# Altium schematic symbol library LVPowerModule.SchLib: 33 symbols
Pins are listed as number, name and electrical type; pins without a type are passive.

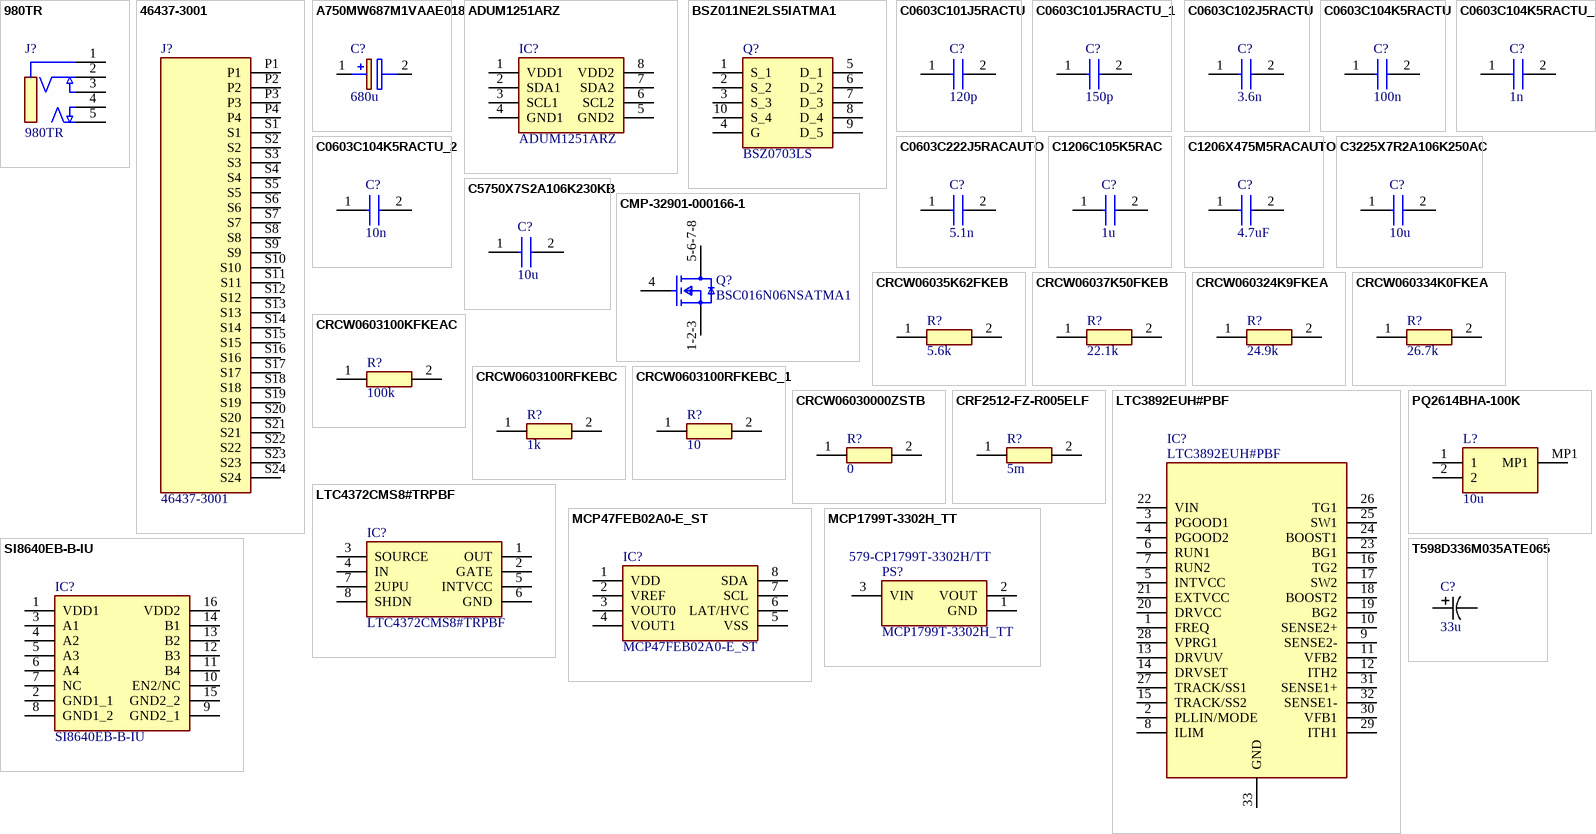
[diagram p0: symbols 980TR to T598D336M035ATE065]

## 980TR
designator J?
Connector; Manufacturer_Name: Keystone Electronics; Datasheet Link: https://www.keyelco.com/product.cfm/product_id/2402; Height: 4.14mm; Manufacturer_Part_Number: 980TR; Mouser Part Number: 534-980; Mouser Price/Stock: https://www.mouser.co.uk/ProductDetail/Keystone-Electronics/980TR?qs=sOYabIlKNmdpbsH5J2zkLQ%3D%3D
footprint 980TR
pins: 1, 2, 3, 4, 5

## 46437-3001
designator J?
Connector; Manufacturer_Name: Molex; Datasheet Link: https://componentsearchengine.com/Datasheets/1/46437-3007.pdf; Height: 10mm; Manufacturer_Part_Number: 46437-3001; Mouser Part Number: 538-46437-3001; Mouser Price/Stock: https://www.mouser.com/Search/Refine.aspx?Keyword=538-46437-3007
footprint 464373001
pins: P1, P2, P3, P4, S1, S2, S3, S4, S5, S6, S7, S8, S9, S10, S11, S12, S13, S14, S15, S16, S17, S18, S19, S20, S21, S22, S23, S24

## A750MW687M1VAAE018
designator C?  value 680u  (hidden comment: A750MW687M1VAAE018)
Capacitor Polarised; Manufacturer_Name: Kemet; Datasheet Link: https://www.kemet.com/specsheet/A750MW687M1VAAE018; Height: 18mm; Manufacturer_Part_Number: A750MW687M1VAAE018
footprint CAPPRD500W65D1000H1800
pins: 1 +, 2 -

## ADUM1251ARZ
designator IC?
Integrated Circuit; Manufacturer_Name: Analog Devices; Datasheet Link: https://datasheet.datasheetarchive.com/originals/distributors/Datasheets-DGA3/264898.pdf; Height: 1.75mm; Manufacturer_Part_Number: ADUM1251ARZ; Mouser Part Number: 584-ADUM1251ARZ; Mouser Price/Stock: https://www.mouser.co.uk/ProductDetail/Analog-Devices/ADUM1251ARZ?qs=WIvQP4zGani5W7Ldr0QsZA%3D%3D; Arrow Part Number: ADUM1251ARZ; Arrow Price/Stock: https://www.arrow.com/en/products/adum1251arz/analog-devices?region=nac; Supplier 1: Mouser; Supplier Part Number 1: 584-ADUM1251ARZ
footprint SOIC127P600X175-8N
pins: 1 VDD1, 2 SDA1, 3 SCL1, 4 GND1, 5 GND2, 6 SCL2, 7 SDA2, 8 VDD2

## BSZ011NE2LS5IATMA1
designator Q?, comment BSZ0703LS
MOSFET (N-Channel); Manufacturer_Name: Infineon; Manufacturer_Part_Number: BSZ011NE2LS5IATMA1; Datasheet Link: https://componentsearchengine.com/Datasheets/1/BSZ011NE2LS5IATMA1.pdf; Height: 1.1mm; Mouser Part Number: 726-BSZ011NE2LS5IATM; Mouser Price/Stock: https://www.mouser.co.uk/ProductDetail/Infineon-Technologies/BSZ011NE2LS5IATMA1?qs=PzGy0jfpSMvXxmHh4MC9dw%3D%3D; Supplier 1: Mouser; Supplier Part Number 1: 726-BSZ0703LSATMA1
footprint BSZ011NE2LS5IATMA1
pins: 1 S_1, 2 S_2, 3 S_3, 4 G, 5 D_1, 6 D_2, 7 D_3, 8 D_4, 9 D_5, 10 S_4

## C0603C101J5RACTU
designator C?, comment value 120p  (hidden comment: C0603C121J5GACTU)
Capacitor; Manufacturer_Name: Kemet; Manufacturer_Part_Number: C0603C101J5RACTU; Datasheet Link: https://componentsearchengine.com/Datasheets/1/C0603C101J5RACTU.pdf; Height: 0.87mm; Mouser Part Number: 80-C0603C101J5R; Mouser Price/Stock: https://www.mouser.com/Search/Refine.aspx?Keyword=80-C0603C101J5R; Arrow Part Number: C0603C101J5RACTU; Arrow Price/Stock: https://www.arrow.com/en/products/c0603c101j5ractu/kemet-corporation; Supplier 1: Mouser; Supplier Part Number 1: 80-C0603C121J5G
footprint CAPC1608X87N
pins: 1, 2

## C0603C101J5RACTU_1
designator C?, comment value 150p  (hidden comment: C0603C151J5GAC)
Capacitor; Manufacturer_Name: Kemet; Manufacturer_Part_Number: C0603C101J5RACTU; Datasheet Link: https://componentsearchengine.com/Datasheets/1/C0603C101J5RACTU.pdf; Height: 0.87mm; Mouser Part Number: 80-C0603C101J5R; Mouser Price/Stock: https://www.mouser.com/Search/Refine.aspx?Keyword=80-C0603C101J5R; Arrow Part Number: C0603C101J5RACTU; Arrow Price/Stock: https://www.arrow.com/en/products/c0603c101j5ractu/kemet-corporation; Supplier 1: Mouser; Supplier Part Number 1: 80-C0603C151J5G
footprint CAPC1608X87N
pins: 1, 2

## C0603C102J5RACTU
designator C?, comment value 3.6n  (hidden comment: C0603C362J5GACTU)
Capacitor; Manufacturer_Name: Kemet; Manufacturer_Part_Number: C0603C102J5RACTU; Datasheet Link: https://api.kemet.com/component-edge/download/datasheet/C0603C102J5RACTU.pdf; Height: 0.87mm; Mouser Part Number: 80-C0603C102J5R; Mouser Price/Stock: https://www.mouser.co.uk/ProductDetail/KEMET/C0603C102J5RACTU?qs=qG1y%252BaZBm0ORyW8zMfKotw%3D%3D; Arrow Part Number: C0603C102J5RACTU; Arrow Price/Stock: https://www.arrow.com/en/products/c0603c102j5ractu/kemet-corporation; Supplier 1: Mouser; Supplier Part Number 1: 80-C0603C362J5G
footprint CAPC1608X87N
pins: 1, 2

## C0603C104K5RACTU
designator C?  value 100n  (hidden comment: C0603C104K5RACTU)
Capacitor; Manufacturer_Name: Kemet; Datasheet Link: http://www.farnell.com/datasheets/2205446.pdf; Height: 0.95mm; Manufacturer_Part_Number: C0603C104K5RACTU; Mouser Part Number: 80-C0603C104K5R; Mouser Price/Stock: https://www.mouser.co.uk/ProductDetail/KEMET/C0603C104K5RACTU?qs=l5k%252BbMnNDkkVcnZPSAaaiQ%3D%3D; Arrow Part Number: C0603C104K5RACTU; Arrow Price/Stock: https://www.arrow.com/en/products/c0603c104k5ractu/kemet-corporation; Supplier 1: Mouser; Supplier Part Number 1: 80-C0603C104K5R
footprint CAPC1608X95N
pins: 1, 2

## C0603C104K5RACTU_1
designator C?, comment value 1n  (hidden comment: C0603C102J5RACTU)
Capacitor; Manufacturer_Name: Kemet; Manufacturer_Part_Number: C0603C104K5RACTU; Datasheet Link: http://www.farnell.com/datasheets/2205446.pdf; Height: 0.95mm; Mouser Part Number: 80-C0603C104K5R; Mouser Price/Stock: https://www.mouser.co.uk/ProductDetail/KEMET/C0603C104K5RACTU?qs=l5k%252BbMnNDkkVcnZPSAaaiQ%3D%3D; Arrow Part Number: C0603C104K5RACTU; Arrow Price/Stock: https://www.arrow.com/en/products/c0603c104k5ractu/kemet-corporation; Supplier 1: Mouser; Supplier Part Number 1: 80-C0603C102J5R
footprint CAPC1608X95N
pins: 1, 2

## C0603C104K5RACTU_2
designator C?, comment value 10n  (hidden comment: C0603C104K5RACTU)
Capacitor; Manufacturer_Name: Kemet; Datasheet Link: http://www.farnell.com/datasheets/2205446.pdf; Height: 0.95mm; Manufacturer_Part_Number: C0603C104K5RACTU; Mouser Part Number: 80-C0603C104K5R; Mouser Price/Stock: https://www.mouser.co.uk/ProductDetail/KEMET/C0603C104K5RACTU?qs=l5k%252BbMnNDkkVcnZPSAaaiQ%3D%3D; Arrow Part Number: C0603C104K5RACTU; Arrow Price/Stock: https://www.arrow.com/en/products/c0603c104k5ractu/kemet-corporation; Supplier 1: Mouser; Supplier Part Number 1: 80-C0603C104K5R
footprint CAPC1608X95N
pins: 1, 2

## C0603C222J5RACAUTO
designator C?, comment value 5.1n  (hidden comment: C0603C512J5GACAUTO)
Capacitor; Manufacturer_Name: Kemet; Manufacturer_Part_Number: C0603C222J5RACAUTO; Datasheet Link: https://api.kemet.com/component-edge/download/datasheet/C0603C222J5RACAUTO.pdf; Height: 0.87mm; Mouser Part Number: 80-C0603C222J5RAUTO; Mouser Price/Stock: https://www.mouser.co.uk/ProductDetail/KEMET/C0603C222J5RACAUTO?qs=XYJIsZbdjSPu3wyG4zpZ%252Bg%3D%3D; Arrow Part Number: C0603C222J5RACAUTO; Arrow Price/Stock: https://www.arrow.com/en/products/c0603c222j5racauto/kemet-corporation; Supplier 1: Mouser; Supplier Part Number 1: 80-C0603C512J5GAUTO
footprint CAPC1608X87N
pins: 1, 2

## C1206C105K5RAC
designator C?  value 1u  (hidden comment: C1206C105K5RAC)
Capacitor; Manufacturer_Name: KEMET; Datasheet Link: https://www.kemet.com/specsheet/C1206C105K5RACTU; Height: 1.1mm; Manufacturer_Part_Number: C1206C105K5RAC; Mouser Part Number: 80-C1206C105K5RAC; Mouser Price/Stock: https://www.mouser.co.uk/ProductDetail/KEMET/C1206C105K5RAC?qs=NTAB53G5bVDYFBtoIe7UwQ%3D%3D; Arrow Part Number: C1206C105K5RAC; Arrow Price/Stock: https://www.arrow.com/en/products/c1206c105k5rac/kemet-corporation
footprint CAPC3216X110N
pins: 1, 2

## C1206X475M5RACAUTO
designator C?  value 4.7uF  (hidden comment: C1206X475M5RACAUTO)
Capacitor; Manufacturer_Name: Kemet; Datasheet Link: https://www.kemet.com/specsheet/C1206X475M5RACAUTO; Height: 1.95mm; Manufacturer_Part_Number: C1206X475M5RACAUTO; Mouser Part Number: 80-C1206X475M5RAUTO; Mouser Price/Stock: https://www.mouser.co.uk/ProductDetail/KEMET/C1206X475M5RACAUTO?qs=%252B6g0mu59x7LXtOZABrHA3A%3D%3D; Supplier 1: Mouser; Supplier Part Number 1: 80-C1206X475M5RAUTO
footprint CAPC3316X195N
pins: 1, 2

## C3225X7R2A106K250AC
designator C?  value 10u  (hidden comment: C3225X7R2A106K250AC)
Capacitor; Manufacturer_Name: TDK; Datasheet Link: https://product.tdk.com/info/en/catalog/datasheets/mlcc_commercial_midvoltage_en.pdf; Height: 2.3mm; Manufacturer_Part_Number: C3225X7R2A106K250AC; Mouser Part Number: 810-C3225X7R2A106K25; Mouser Price/Stock: https://www.mouser.co.uk/ProductDetail/TDK/C3225X7R2A106K250AC?qs=rSMjJ%252B1ewcQNu1nTZev8UA%3D%3D
footprint CAPC3225X230N
pins: 1, 2

## C5750X7S2A106K230KB
designator C?  value 10u  (hidden comment: C5750X7S2A106K230KB)
Capacitor; Manufacturer_Name: TDK; Datasheet Link: http://www.mouser.com/ds/2/400/lcc_commercial_general_en-837201.pdf; Height: 3.1mm; Manufacturer_Part_Number: C5750X7S2A106K230KB; Arrow Part Number: C5750X7S2A106K230KB; Arrow Price/Stock: https://www.arrow.com/en/products/c5750x7s2a106k230kb/tdk; Mouser Part Number: 810-C5750X7S2A106KKB; Mouser Price/Stock: https://www.mouser.co.uk/ProductDetail/TDK/C5750X7S2A106K230KB?qs=XHchNesRtUZKzUEzha8N7w%3D%3D; Supplier 1: Mouser; Supplier Part Number 1: 810-C5750X7S2A106KKB
footprint CAPC5750X310N
pins: 1, 2

## CMP-32901-000166-1
designator Q?, comment BSC016N06NSATMA1
MOSFET N-CH 60V 30A TDSON-8; Manufacturer: Infineon; Reverse Recovery Charge: 78nC; Power Dissipation: 2.5W; Transconductance: 140S; Gate Charge At Vgs: 71nC @ 10V; Turn On Delay Time: 19ns; Number Of Channels: 1; Typ Forward Diode Voltage: 0.9V; Depletion Mode: False; Max Forward Diode Voltage: 1.2V; Reverse Recovery Time: 61ns; Input Capacitace At Vds: 5200pF @ 30V; Gate To Source Voltage: 20V; Threshold Vgs Min: 2.1V; Drain To Source Resistance: 1.4mΩ; Turn Off Delay Time: 35ns; Threshold Vgs Max: 3.3V; Pulse Drain Current: 400A; Rthja Max: 50K/W; Max Junction Temp: +150°C; Temperature Range High: +150°C; Lead Free: Yes; ComponentLink2URL: https://www.infineon.com/dgdl/Infineon-BSC016N06NS-DS-v02_01-en.pdf?fileId=db3a3043353fdc160135532b353c483c; Device Class L2: Transistors; Drain To Source Voltage: 60V; ComponentLink2Description: Datasheet; Device Class L1: Discrete Semiconductors; Drain To Source Breakdown Voltage: 60V; Manufacturer Part Number: BSC016N06NSATMA1; Continuous Drain Current: 30A; Package: PG-TDSON-8; Octopart: https://octopart.com/bsc016n06nsatma1-infineon-23421881; Automotive: No; Temperature Range Low: -55°C; Footprint Url: https://www.infineon.com/cms/en/product/packages/PG-TDSON/PG-TDSON-8-17/; RoHS: TRUE; Number Of N Channels: 1; Temperature: -55°C to +150°C; Height: 1.1mm; Device Class L3: MOSFETs; Category: Trans; Digikey Description: MOSFET N-CH 60V 30A TDSON-8
footprint FP-PG-TDSON-8-MFG
pins: 1-2-3 S, 4 G, 5-6-7-8 D

## CRCW06035K62FKEB
designator R?, comment value 5.6k  (hidden comment: CRCW06035K60JNEAC)
Resistor; Manufacturer_Name: Vishay; Manufacturer_Part_Number: CRCW06035K62FKEB; Datasheet Link: http://www.vishay.com/docs/20035/dcrcwe3.pdf; Height: 0.5mm; Mouser Part Number: 71-CRCW06035K62FKEB; Mouser Price/Stock: https://www.mouser.co.uk/ProductDetail/Vishay-Dale/CRCW06035K62FKEB?qs=P6ImCWcZKGBvDktlVJxa7w%3D%3D; Supplier 1: Mouser; Supplier Part Number 1: 71-CRCW06035K60JNEAC
footprint RESC1608X50N
pins: 1, 2

## CRCW06037K50FKEB
designator R?, comment value 22.1k  (hidden comment: CRCW060322K1FKEB)
Resistor; Manufacturer_Name: Vishay; Manufacturer_Part_Number: CRCW06037K50FKEB; Datasheet Link: http://www.vishay.com/docs/20035/dcrcwe3.pdf; Height: 0.5mm; Mouser Part Number: 71-CRCW06037K50FKEB; Mouser Price/Stock: https://www.mouser.co.uk/ProductDetail/Vishay-Dale/CRCW06037K50FKEB?qs=2ihuRUavkaTvW2vO4EimMQ%3D%3D; Supplier 1: Mouser; Supplier Part Number 1: 71-CRCW060322K1FKEB
footprint RESC1608X50N
pins: 1, 2

## CRCW060324K9FKEA
designator R?, comment value 24.9k  (hidden comment: CRCW060324K9FKTA)
Resistor; Manufacturer_Name: Vishay; Manufacturer_Part_Number: CRCW060324K9FKEA; Datasheet Link: http://www.vishay.com/docs/20035/dcrcwe3.pdf; Height: 0.5mm; Mouser Part Number: 71-CRCW0603-24.9K-E3; Mouser Price/Stock: https://www.mouser.co.uk/ProductDetail/Vishay-Dale/CRCW060324K9FKEA?qs=duauLwvczSYlbxc75y0kVA%3D%3D; Arrow Part Number: CRCW060324K9FKEA; Arrow Price/Stock: https://www.arrow.com/en/products/crcw060324k9fkea/vishay; Supplier 1: Mouser; Supplier Part Number 1: 71-CRCW0603-24.9K
footprint RESC1608X50N
pins: 1, 2

## CRCW060334K0FKEA
designator R?, comment value 26.7k  (hidden comment: CRCW060326K7FKEB)
Resistor; Manufacturer_Name: Vishay; Manufacturer_Part_Number: CRCW060334K0FKEA; Datasheet Link: http://www.vishay.com/docs/20035/dcrcwe3.pdf; Height: 0.5mm; Mouser Part Number: 71-CRCW0603-34K-E3; Mouser Price/Stock: https://www.mouser.com/Search/Refine.aspx?Keyword=71-CRCW0603-34K-E3; Arrow Part Number: CRCW060334K0FKEA; Arrow Price/Stock: https://www.arrow.com/en/products/crcw060334k0fkea/vishay; Supplier 1: Mouser; Supplier Part Number 1: 71-CRCW060326K7FKEB
footprint RESC1608X50N
pins: 1, 2

## CRCW0603100KFKEAC
designator R?, comment value 100k  (hidden comment: CRCW0603100KJNEAC)
Resistor; Manufacturer_Name: Vishay; Manufacturer_Part_Number: CRCW0603100KFKEAC; Datasheet Link: https://www.mouser.com/datasheet/2/427/crcwce3-1223726.pdf; Height: 0.55mm; Mouser Part Number: 71-CRCW0603100KFKEAC; Mouser Price/Stock: https://www.mouser.co.uk/ProductDetail/Vishay-Dale/CRCW0603100KFKEAC?qs=E3Y5ESvWgWPxzfNYyMgX1w%3D%3D; Arrow Part Number: CRCW0603100KFKEAC; Arrow Price/Stock: https://www.arrow.com/en/products/crcw0603100kfkeac/vishay; Supplier 1: Mouser; Supplier Part Number 1: 71-CRCW0603100KJNEAC
footprint RESC1608X55N
pins: 1, 2

## CRCW0603100RFKEBC
designator R?  value 1k  (hidden comment: CRCW0603100RFKEBC)
Resistor; Manufacturer_Name: Vishay; Datasheet Link: https://www.vishay.com/docs/28773/crcwce3.pdf; Height: 0.55mm; Manufacturer_Part_Number: CRCW0603100RFKEBC; Mouser Part Number: 71-CRCW0603100RFKEBC; Mouser Price/Stock: https://www.mouser.co.uk/ProductDetail/Vishay-Dale/CRCW0603100RFKEBC?qs=wd5RIQLrsJhdvQFtBw4oWg%3D%3D; Arrow Part Number: CRCW0603100RFKEBC; Arrow Price/Stock: https://www.arrow.com/en/products/crcw0603100rfkebc/vishay?region=nac
footprint RESC1608X55N
pins: 1, 2

## CRCW0603100RFKEBC_1
designator R?, comment value 10  (hidden comment: CRCW0603100RFKEBC)
Resistor; Manufacturer_Name: Vishay; Datasheet Link: https://www.vishay.com/docs/28773/crcwce3.pdf; Height: 0.55mm; Manufacturer_Part_Number: CRCW0603100RFKEBC; Mouser Part Number: 71-CRCW0603100RFKEBC; Mouser Price/Stock: https://www.mouser.co.uk/ProductDetail/Vishay-Dale/CRCW0603100RFKEBC?qs=wd5RIQLrsJhdvQFtBw4oWg%3D%3D; Arrow Part Number: CRCW0603100RFKEBC; Arrow Price/Stock: https://www.arrow.com/en/products/crcw0603100rfkebc/vishay?region=nac
footprint RESC1608X55N
pins: 1, 2

## CRCW06030000ZSTB
designator R?  Parameter 1: 0  (hidden comment: CRCW06030000ZSTB)
Resistor; Manufacturer_Name: Vishay; Datasheet Link: http://www.vishay.com/docs/20035/dcrcwe3.pdf; Height: 0.5mm; Manufacturer_Part_Number: CRCW06030000ZSTB; Mouser Part Number: 71-CRCW0603000ZT-RT5; Mouser Price/Stock: https://www.mouser.co.uk/ProductDetail/Vishay-Dale/CRCW06030000ZSTB?qs=2ymmDbJkxOjBfbAlbZJVUA%3D%3D; Arrow Part Number: CRCW06030000ZSTB; Arrow Price/Stock: https://www.arrow.com/en/products/crcw06030000zstb/vishay?region=nac; Supplier 1: Mouser; Supplier Part Number 1: 71-CRCW0603000ZT-RT5
footprint RESC1608X50N
pins: 1, 2

## CRF2512-FZ-R005ELF
designator R?  value 5m  (hidden comment: CRF2512-FZ-R005ELF)
Resistor; Manufacturer_Name: Bourns; Datasheet Link: https://www.arrow.com/en/products/crf2512-fz-r005elf/bourns; Height: 0.8mm; Manufacturer_Part_Number: CRF2512-FZ-R005ELF; Mouser Part Number: 652-CRF2512FZR005ELF; Mouser Price/Stock: https://www.mouser.co.uk/ProductDetail/Bourns/CRF2512-FZ-R005ELF/?qs=iHX4uCgIbgMqZUuYK4Zqgg%3D%3D; Arrow Part Number: CRF2512-FZ-R005ELF; Arrow Price/Stock: https://www.arrow.com/en/products/crf2512-fz-r005elf/bourns; Supplier 1: Mouser; Supplier Part Number 1: 652-CRF2512FZR005ELF
footprint RESC6432X80N
pins: 1, 2

## LTC3892EUH#PBF
designator IC?
Integrated Circuit; Manufacturer_Name: Analog Devices; Datasheet Link: https://static6.arrow.com/aropdfconversion/d55dab638e5428544f7d993794f5b08548362f1a/25521248972647946369.pdf; Height: 0.8mm; Manufacturer_Part_Number: LTC3892EUH#PBF; Arrow Part Number: LTC3892EUH#PBF; Arrow Price/Stock: https://www.arrow.com/en/products/ltc3892euhpbf/analog-devices; Supplier 1: Mouser; Supplier Part Number 1: 584-LTC3892EUH-2#PBF
footprint QFN50P500X500X80-33N-D
pins: 1 FREQ, 2 PLLIN/MODE, 3 PGOOD1, 4 PGOOD2, 5 INTVCC, 6 RUN1, 7 RUN2, 8 ILIM, 9 SENSE2-, 10 SENSE2+, 11 VFB2, 12 ITH2, 13 DRVUV, 14 DRVSET, 15 TRACK/SS2, 16 TG2, 17 SW2, 18 BOOST2, 19 BG2, 20 DRVCC, 21 EXTVCC, 22 VIN, 23 BG1, 24 BOOST1, 25 SW1, 26 TG1, 27 TRACK/SS1, 28 VPRG1, 29 ITH1, 30 VFB1, 31 SENSE1+, 32 SENSE1-, 33 GND

## LTC4372CMS8#TRPBF
designator IC?
Integrated Circuit; Manufacturer_Name: Analog Devices; Datasheet Link: https://www.arrow.com/en/products/ltc4372cms8trpbf/analog-devices; Height: 1.1mm; Manufacturer_Part_Number: LTC4372CMS8#TRPBF; Mouser Part Number: 584-LTC4372CMS8TRPBF; Mouser Price/Stock: https://www.mouser.co.uk/ProductDetail/Analog-Devices/LTC4372CMS8TRPBF?qs=T94vaHKWudSmRk6S7wUTVw%3D%3D; Arrow Part Number: LTC4372CMS8#TRPBF; Arrow Price/Stock: https://www.arrow.com/en/products/ltc4372cms8trpbf/analog-devices; Supplier 1: Mouser; Supplier Part Number 1: 584-LTC4372CMS8TRPBF
footprint SOP65P490X110-8N
pins: 1 OUT, 2 GATE, 3 SOURCE, 4 IN, 5 INTVCC, 6 GND, 7 2UPU, 8 SHDN

## MCP47FEB02A0-E_ST
designator IC?
Integrated Circuit; Manufacturer_Name: Microchip; Manufacturer_Part_Number: MCP47FEB02A0-E/ST; Datasheet Link: http://www.microchip.com/mymicrochip/filehandler.aspx?ddocname=en573220; Height: 1.2mm; Mouser Part Number: 579-MCP47FEB02A0EST; Mouser Price/Stock: https://www.mouser.co.uk/ProductDetail/Microchip-Technology/MCP47FEB02A0-E-ST?qs=rQCxX1QmdjKDJonwz1QvmA%3D%3D; Arrow Part Number: MCP47FEB02A0-E/ST; Arrow Price/Stock: https://www.arrow.com/en/products/mcp47feb02a0-est/microchip-technology?region=nac
footprint SOP65P640X120-8N
pins: 1 VDD, 2 VREF, 3 VOUT0, 4 VOUT1, 5 VSS, 6 LAT/HVC, 7 SCL, 8 SDA

## MCP1799T-3302H_TT
designator PS?  Supplier Part Number 1: 579-CP1799T-3302H/TT
Power Supply; Manufacturer_Name: Microchip; Manufacturer_Part_Number: MCP1799T-3302H/TT; Datasheet Link: https://ms.componentsearchengine.com/Datasheets/1/MCP1799T-3302H_TT.pdf; Height: 1.12mm; Mouser Part Number: 579-CP1799T-3302H/TT; Mouser Price/Stock: https://www.mouser.co.uk/ProductDetail/Microchip-Technology-Atmel/MCP1799T-3302H-TT?qs=BJlw7L4Cy78EAGTR6Iuibw%3D%3D; Arrow Part Number: MCP1799T-3302H/TT; Arrow Price/Stock: https://www.arrow.com/en/products/mcp1799t-3302htt/microchip-technology?region=nac; Supplier 1: Mouser
footprint SOT95P237X112-3N
pins: 1 GND, 2 VOUT, 3 VIN

## PQ2614BHA-100K
designator L?  value 10u  (hidden comment: PQ2614BHA-100K)
Inductor; Manufacturer_Name: Bourns; Datasheet Link: https://www.bourns.com/docs/Product-Datasheets/PQ2614.pdf; Height: 16mm; Manufacturer_Part_Number: PQ2614BHA-100K; Mouser Part Number: 652-PQ2614BHA-100K; Mouser Price/Stock: https://www.mouser.co.uk/ProductDetail/Bourns/PQ2614BHA-100K?qs=1mbolxNpo8cus7p6tzCJzA%3D%3D; Arrow Part Number: PQ2614BHA-100K; Arrow Price/Stock: https://www.arrow.com/en/products/pq2614bha-100k/bourns?region=nac; Supplier 1: Mouser; Supplier Part Number 1: 652-PQ2614BHA-100K
footprint PQ2614BLA1R0K
pins: 1, 2, MP1

## SI8640EB-B-IU
designator IC?
Integrated Circuit; Manufacturer_Name: Skyworks; Datasheet Link: https://www.mouser.in/datasheet/2/472/si864x_datasheet-2507790.pdf; Height: 1.75mm; Manufacturer_Part_Number: SI8640EB-B-IU; Mouser Part Number: 634-SI8640EB-B-IU; Mouser Price/Stock: https://www.mouser.co.uk/ProductDetail/Skyworks-Solutions-Inc/SI8640EB-B-IU?qs=1mbolxNpo8djAX8%252BwHCeQQ%3D%3D
footprint SOP64P600X175-16N
pins: 1 VDD1, 2 GND1_1, 3 A1, 4 A2, 5 A3, 6 A4, 7 NC, 8 GND1_2, 9 GND2_1, 10 EN2/NC, 11 B4, 12 B3, 13 B2, 14 B1, 15 GND2_2, 16 VDD2

## T598D336M035ATE065
designator C?  value 33u  (hidden comment: T598D336M035ATE065)
No Description Available; Vendor: Kemet; SourceLibrary: Kemet_2020-03-25_3; Built_By: EMA_Frank; Source_Library: Kemet_2020-03-25_3.xlr; Type: DEV; Manufacturer_Part_Number: T598D336M035ATE065; Copyright: Copyright (C) 2018 Accelerated Designs. All rights reserved; RefDes: RefDes; Supplier 1: Mouser; Supplier Part Number 1: 80-T598D336M35E65
footprint CAPMP7.6X4.3_3.1N_KEM
pins: 1, 2